# EAGLE library part YCL-20F001? (library trafo)
YCL-20F00(N)
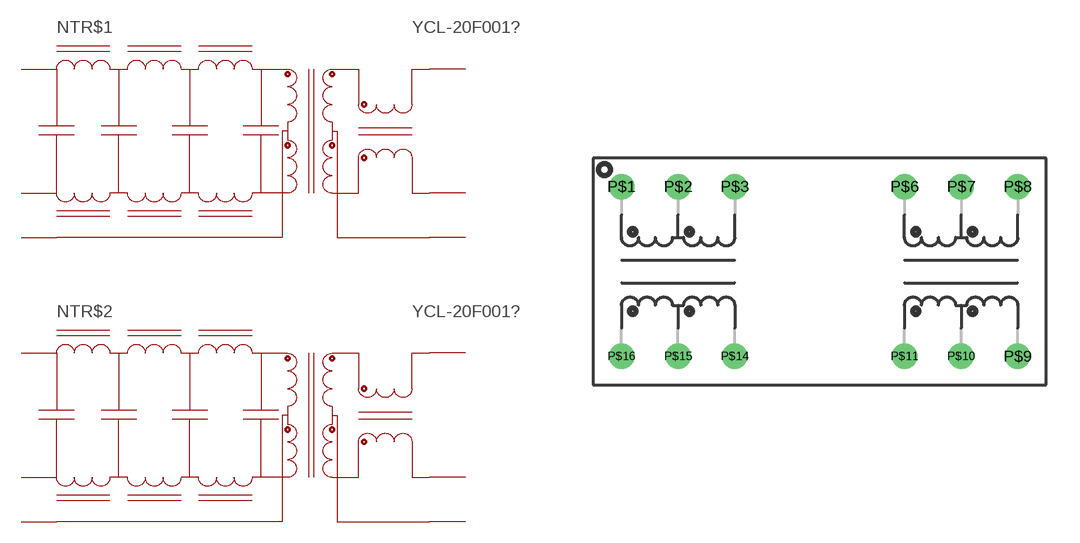
[diagram p0: symbol with the pads of DIP; footprint DIP]

Designator prefix N; gates TR$1=TRAFO TR$2=TRAFO

## YCL-20F001N  [DIP]
P$1  TR$1:P$1  pas
P$2  TR$1:P$2  pas
P$3  TR$1:P$3  pas
P$6  TR$2:P$1  pas
P$7  TR$2:P$2  pas
P$8  TR$2:P$3  pas
P$9  TR$2:P$6  pas
P$10  TR$2:P$5  pas
P$11  TR$2:P$4  pas
P$14  TR$1:P$6  pas
P$15  TR$1:P$5  pas
P$16  TR$1:P$4  pas

## Footprint DIP (pad centres in mm)
Standard DIL-16 package with 4 middle pads removed. Typical for ethernet trafo.
drill 0.635: P$1 -8.89,3.81; P$2 -6.35,3.81; P$3 -3.81,3.81; P$6 3.81,3.81; P$7 6.35,3.81; P$8 8.89,3.81; P$9 8.89,-3.81; P$10 6.35,-3.81; P$11 3.81,-3.81; P$14 -3.81,-3.81; P$15 -6.35,-3.81; P$16 -8.89,-3.81